# Altium footprint library TracoPower.PcbLib: 1 footprints
Each footprint in its own frame and in the unit in brackets; x right, y up, seen from the top. Pads: shape width x height; smd on the part's side, far side on the other; paste and mask are expansions set on the pad; w line width, h text height; cw(c..) or ccw(c..) is an arc to the next point about the centre after c.
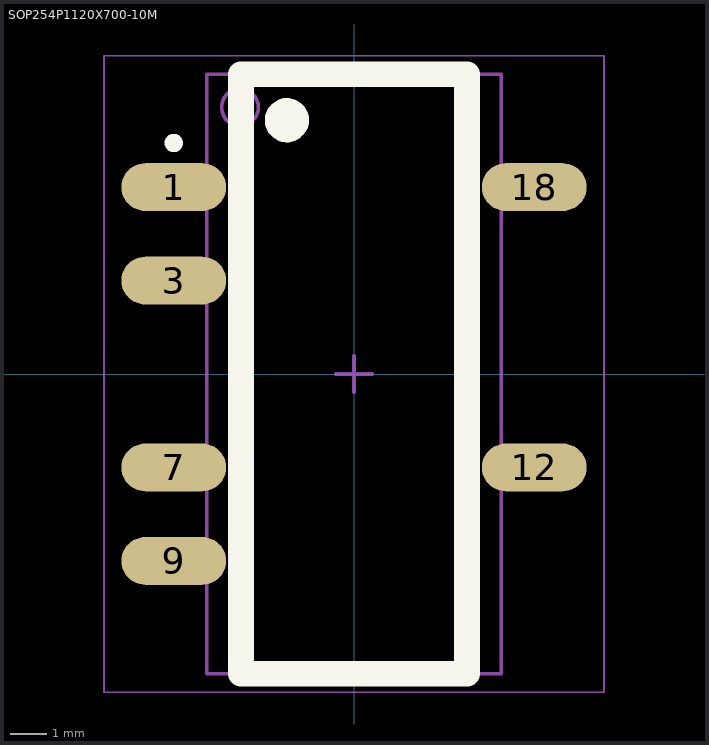
[diagram p0: the footprint, top view; thin cyan lines are the x and y axes]

## SOP254P1120X700-10M [mm] "SOP, 10-Leads, Body 16,30x8,00mm, Pitch 2,54mm, IPC Low Density"
height 7
pads (6):
  oval 2.85x1.3 smd: 1(-4.9,5.08) 3(-4.9,2.54) 7(-4.9,-2.54) 9(-4.9,-5.08) 12(4.9,-2.54) 18(4.9,5.08)
Top Overlay:
  circle w0.25: c-4.9,6.28 r0.125
  circle w0.6: c-1.825,6.9 r0.3
  lines w0.7: -3.075,-8.15 -3.075,8.15 3.075,8.15 3.075,-8.15 -3.075,-8.15
Mechanical 13:
  circle w0.1: c-3.1,7.25 r0.5
  lines w0.1: -4,-8.15 -4,8.15 4,8.15 4,-8.15 -4,-8.15
Mechanical 15:
  lines w0.05: -6.8,-8.65 -6.8,8.65 6.8,8.65 6.8,-8.65 -6.8,-8.65
  lines w0.1: -0.5,0 0.5,0 ; 0,-0.5 0,0.5
3D body: height 7, standoff 0.3, extent -4,-8.15 4,8.15